# Altium footprint library test_point_th_08mm.PCBLIB: 1 footprints
Each footprint in its own frame and in the unit in brackets; x right, y up, seen from the top. Pads: shape width x height; smd on the part's side, far side on the other; paste and mask are expansions set on the pad; w line width, h text height; cw(c..) or ccw(c..) is an arc to the next point about the centre after c.
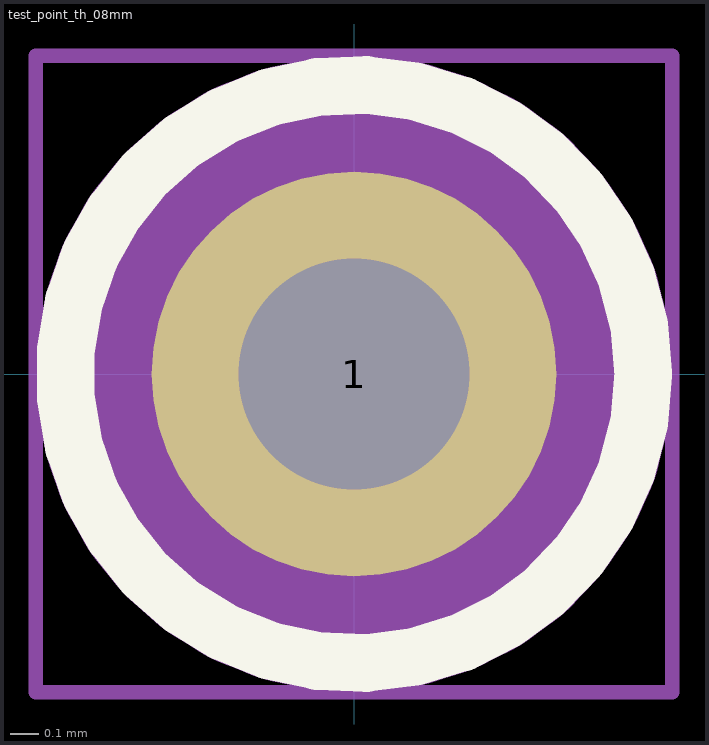
[diagram p0: the footprint, top view; thin cyan lines are the x and y axes]

## test_point_th_08mm [mm]
pads (1):
  round 1.4 hole 0.8: 1(0,0)
Top Overlay:
  circle w0.2: c0,0 r1
Top Courtyard:
  lines w0.05: -1.1,-1.1 1.1,-1.1 1.1,1.1 -1.1,1.1 -1.1,-1.1
Top TestPoint:
  circle w1: c0,0 r0.6
  text ".TP_Function" at 2.238,-3.417 h1.75
  text ".Designator" at -1.424,-3.009 h1.75